# Altium schematic symbol library CPLD_Xilinx.SchLib: 17 symbols
Pins are listed as number, name and electrical type; pins without a type are passive.

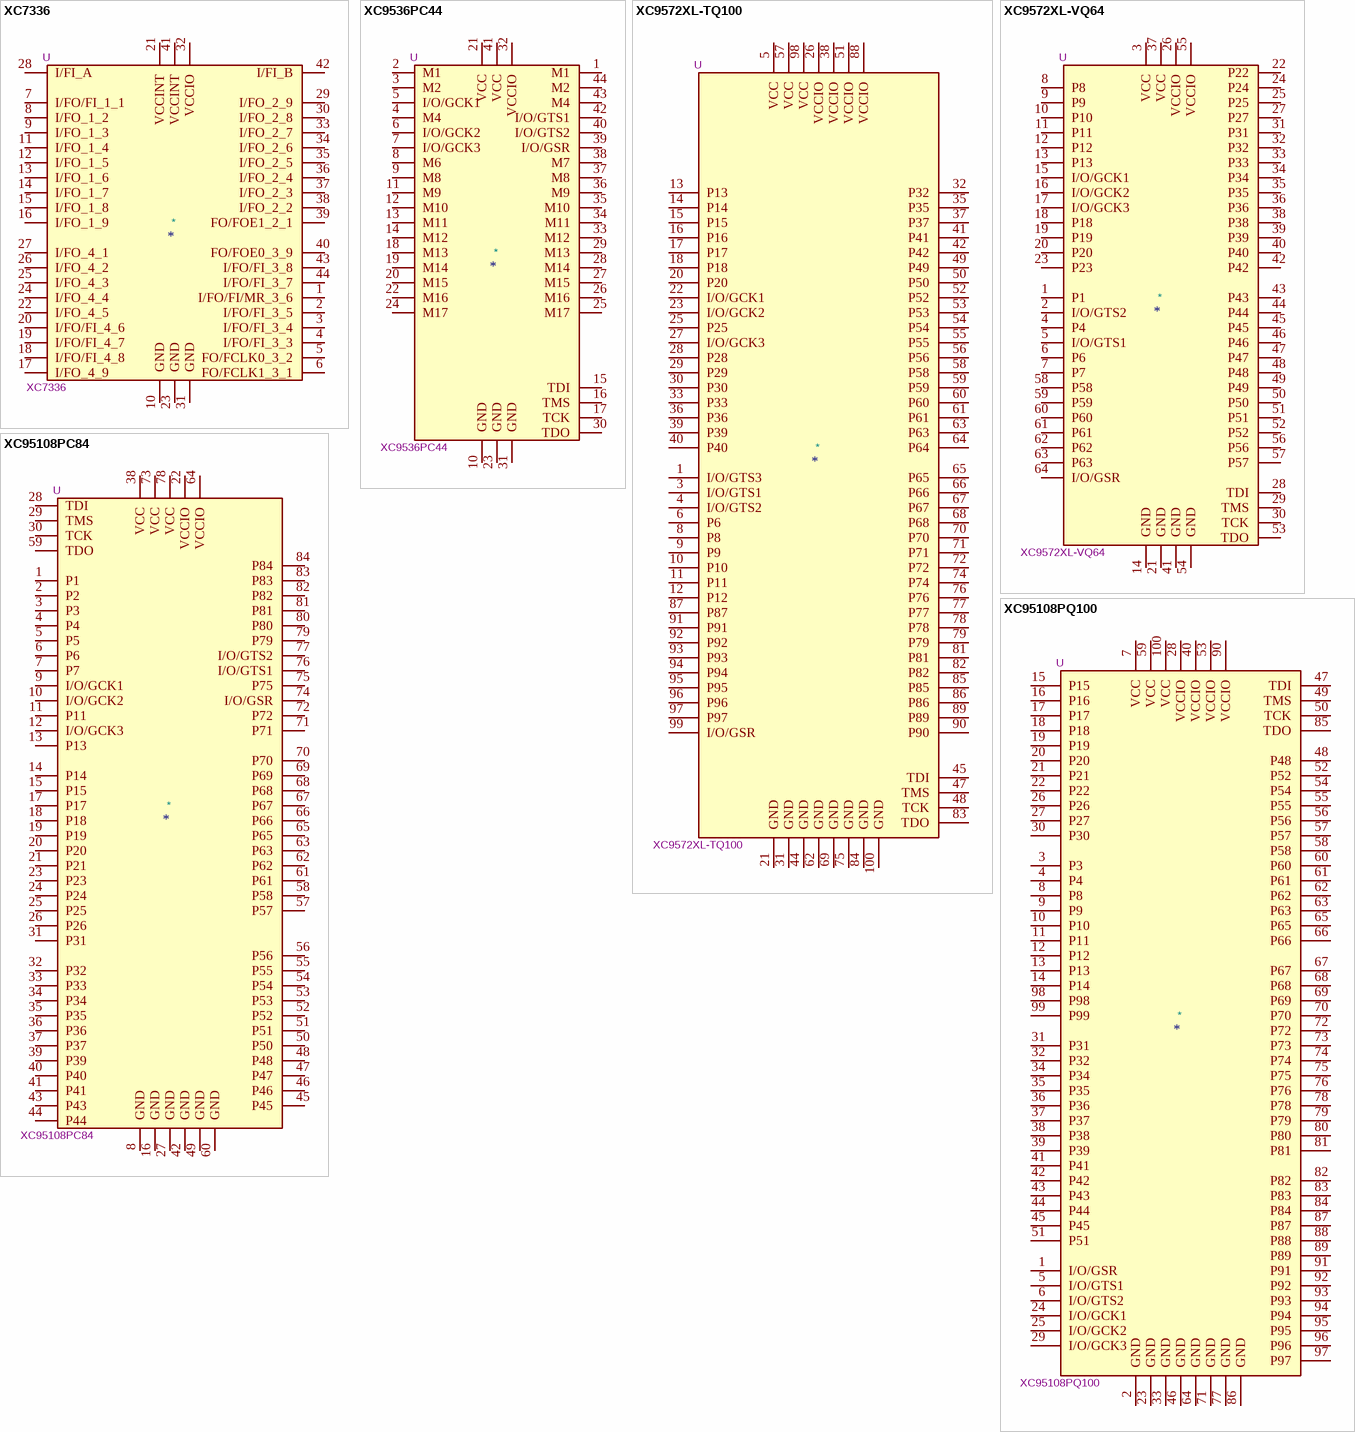
[diagram p0: symbols XC7336 to XC95108PQ100]

## XC7336
designator *  value XC7336  Reference: U
ki_description: Xilinx CPLD, Obsolete
pins: 1 I/FO/FI/MR_3_6, 2 I/FO/FI_3_5, 3 I/FO/FI_3_4, 4 I/FO/FI_3_3, 5 FO/FCLK0_3_2, 6 FO/FCLK1_3_1, 7 I/FO/FI_1_1, 8 I/FO_1_2, 9 I/FO_1_3, 10 GND, 11 I/FO_1_4, 12 I/FO_1_5, 13 I/FO_1_6, 14 I/FO_1_7, 15 I/FO_1_8, 16 I/FO_1_9, 17 I/FO_4_9, 18 I/FO/FI_4_8, 19 I/FO/FI_4_7, 20 I/FO/FI_4_6, 21 VCCINT, 22 I/FO_4_5, 23 GND, 24 I/FO_4_4, 25 I/FO_4_3, 26 I/FO_4_2, 27 I/FO_4_1, 28 I/FI_A, 29 I/FO_2_9, 30 I/FO_2_8, 31 GND, 32 VCCIO, 33 I/FO_2_7, 34 I/FO_2_6, 35 I/FO_2_5, 36 I/FO_2_4, 37 I/FO_2_3, 38 I/FO_2_2, 39 FO/FOE1_2_1, 40 FO/FOE0_3_9, 41 VCCINT, 42 I/FI_B, 43 I/FO/FI_3_8, 44 I/FO/FI_3_7

## XC9536PC44
designator *  value XC9536PC44  Reference: U
ki_description: Xilinx CPLD, Obsolete; Datasheet: xilinx/xc9536.pdf
pins: 1 M1, 2 M1, 3 M2, 4 M4, 5 I/O/GCK1, 6 I/O/GCK2, 7 I/O/GCK3, 8 M6, 9 M8, 10 GND, 11 M9, 12 M10, 13 M11, 14 M12, 15 TDI, 16 TMS, 17 TCK, 18 M13, 19 M14, 20 M15, 21 VCC, 22 M16, 23 GND, 24 M17, 25 M17, 26 M16, 27 M15, 28 M14, 29 M13, 30 TDO, 31 GND, 32 VCCIO, 33 M12, 34 M11, 35 M10, 36 M9, 37 M8, 38 M7, 39 I/O/GSR, 40 I/O/GTS2, 41 VCC, 42 I/O/GTS1, 43 M4, 44 M2

## XC9572XL-TQ100
designator *  value XC9572XL-TQ100  Reference: U
ki_keywords: CPLD; ki_description: CPLD, 72 Macrocells, 1600 Usable Gates; ki_fp_filters: TQFP*14x14mm*P0.5mm*; Footprint: Package_QFP:TQFP-100_14x14mm_P0.5mm; Datasheet: http://www.xilinx.com/support/documentation/data_sheets/ds057.pdf
pins: 1 I/O/GTS3, 2 NC hidden, 3 I/O/GTS1, 4 I/O/GTS2, 5 VCC, 6 P6, 7 NC hidden, 8 P8, 9 P9, 10 P10, 11 P11, 12 P12, 13 P13, 14 P14, 15 P15, 16 P16, 17 P17, 18 P18, 19 NC hidden, 20 P20, 21 GND, 22 I/O/GCK1, 23 I/O/GCK2, 24 NC hidden, 25 P25, 26 VCCIO, 27 I/O/GCK3, 28 P28, 29 P29, 30 P30, 31 GND, 32 P32, 33 P33, 34 NC hidden, 35 P35, 36 P36, 37 P37, 38 VCCIO, 39 P39, 40 P40, 41 P41, 42 P42, 43 NC hidden, 44 GND, 45 TDI, 46 NC hidden, 47 TMS, 48 TCK, 49 P49, 50 P50, 51 VCCIO, 52 P52, 53 P53, 54 P54, 55 P55, 56 P56, 57 VCC, 58 P58, 59 P59, 60 P60, 61 P61, 62 GND, 63 P63, 64 P64, 65 P65, 66 P66, 67 P67, 68 P68, 69 GND, 70 P70, 71 P71, 72 P72, 73 NC hidden, 74 P74, 75 GND, 76 P76, 77 P77, 78 P78, 79 P79, 80 NC hidden, 81 P81, 82 P82, 83 TDO, 84 GND, 85 P85, 86 P86, 87 P87, 88 VCCIO, 89 P89, 90 P90, 91 P91, 92 P92, 93 P93, 94 P94, 95 P95, 96 P96, 97 P97, 98 VCC, 99 I/O/GSR, 100 GND

## XC9572XL-VQ64
designator *  value XC9572XL-VQ64  Reference: U
ki_keywords: CPLD; ki_description: CPLD, 72 Macrocells, 1600 Usable Gates; ki_fp_filters: TQFP*10x10mm*P0.5mm*; Footprint: Package_QFP:TQFP-64_10x10mm_P0.5mm; Datasheet: http://www.xilinx.com/support/documentation/data_sheets/ds057.pdf
pins: 1 P1, 2 I/O/GTS2, 3 VCC, 4 P4, 5 I/O/GTS1, 6 P6, 7 P7, 8 P8, 9 P9, 10 P10, 11 P11, 12 P12, 13 P13, 14 GND, 15 I/O/GCK1, 16 I/O/GCK2, 17 I/O/GCK3, 18 P18, 19 P19, 20 P20, 21 GND, 22 P22, 23 P23, 24 P24, 25 P25, 26 VCCIO, 27 P27, 28 TDI, 29 TMS, 30 TCK, 31 P31, 32 P32, 33 P33, 34 P34, 35 P35, 36 P36, 37 VCC, 38 P38, 39 P39, 40 P40, 41 GND, 42 P42, 43 P43, 44 P44, 45 P45, 46 P46, 47 P47, 48 P48, 49 P49, 50 P50, 51 P51, 52 P52, 53 TDO, 54 GND, 55 VCCIO, 56 P56, 57 P57, 58 P58, 59 P59, 60 P60, 61 P61, 62 P62, 63 P63, 64 I/O/GSR

## XC95108PC84
designator *  value XC95108PC84  Reference: U
ki_description: Xilinx CPLD, Obsolete; Datasheet: xilinx/xc95108.pdf
pins: 1 P1, 2 P2, 3 P3, 4 P4, 5 P5, 6 P6, 7 P7, 8 GND, 9 I/O/GCK1, 10 I/O/GCK2, 11 P11, 12 I/O/GCK3, 13 P13, 14 P14, 15 P15, 16 GND, 17 P17, 18 P18, 19 P19, 20 P20, 21 P21, 22 VCCIO, 23 P23, 24 P24, 25 P25, 26 P26, 27 GND, 28 TDI, 29 TMS, 30 TCK, 31 P31, 32 P32, 33 P33, 34 P34, 35 P35, 36 P36, 37 P37, 38 VCC, 39 P39, 40 P40, 41 P41, 42 GND, 43 P43, 44 P44, 45 P45, 46 P46, 47 P47, 48 P48, 49 GND, 50 P50, 51 P51, 52 P52, 53 P53, 54 P54, 55 P55, 56 P56, 57 P57, 58 P58, 59 TDO, 60 GND, 61 P61, 62 P62, 63 P63, 64 VCCIO, 65 P65, 66 P66, 67 P67, 68 P68, 69 P69, 70 P70, 71 P71, 72 P72, 73 VCC, 74 I/O/GSR, 75 P75, 76 I/O/GTS1, 77 I/O/GTS2, 78 VCC, 79 P79, 80 P80, 81 P81, 82 P82, 83 P83, 84 P84

## XC95108PQ100
designator *  value XC95108PQ100  Reference: U
ki_description: Xilinx CPLD, Obsolete; Datasheet: xilinx/xc95108.pdf
pins: 1 I/O/GSR, 2 GND, 3 P3, 4 P4, 5 I/O/GTS1, 6 I/O/GTS2, 7 VCC, 8 P8, 9 P9, 10 P10, 11 P11, 12 P12, 13 P13, 14 P14, 15 P15, 16 P16, 17 P17, 18 P18, 19 P19, 20 P20, 21 P21, 22 P22, 23 GND, 24 I/O/GCK1, 25 I/O/GCK2, 26 P26, 27 P27, 28 VCCIO, 29 I/O/GCK3, 30 P30, 31 P31, 32 P32, 33 GND, 34 P34, 35 P35, 36 P36, 37 P37, 38 P38, 39 P39, 40 VCCIO, 41 P41, 42 P42, 43 P43, 44 P44, 45 P45, 46 GND, 47 TDI, 48 P48, 49 TMS, 50 TCK, 51 P51, 52 P52, 53 VCCIO, 54 P54, 55 P55, 56 P56, 57 P57, 58 P58, 59 VCC, 60 P60, 61 P61, 62 P62, 63 P63, 64 GND, 65 P65, 66 P66, 67 P67, 68 P68, 69 P69, 70 P70, 71 GND, 72 P72, 73 P73, 74 P74, 75 P75, 76 P76, 77 GND, 78 P78, 79 P79, 80 P80, 81 P81, 82 P82, 83 P83, 84 P84, 85 TDO, 86 GND, 87 P87, 88 P88, 89 P89, 90 VCCIO, 91 P91, 92 P92, 93 P93, 94 P94, 95 P95, 96 P96, 97 P97, 98 P98, 99 P99, 100 VCC

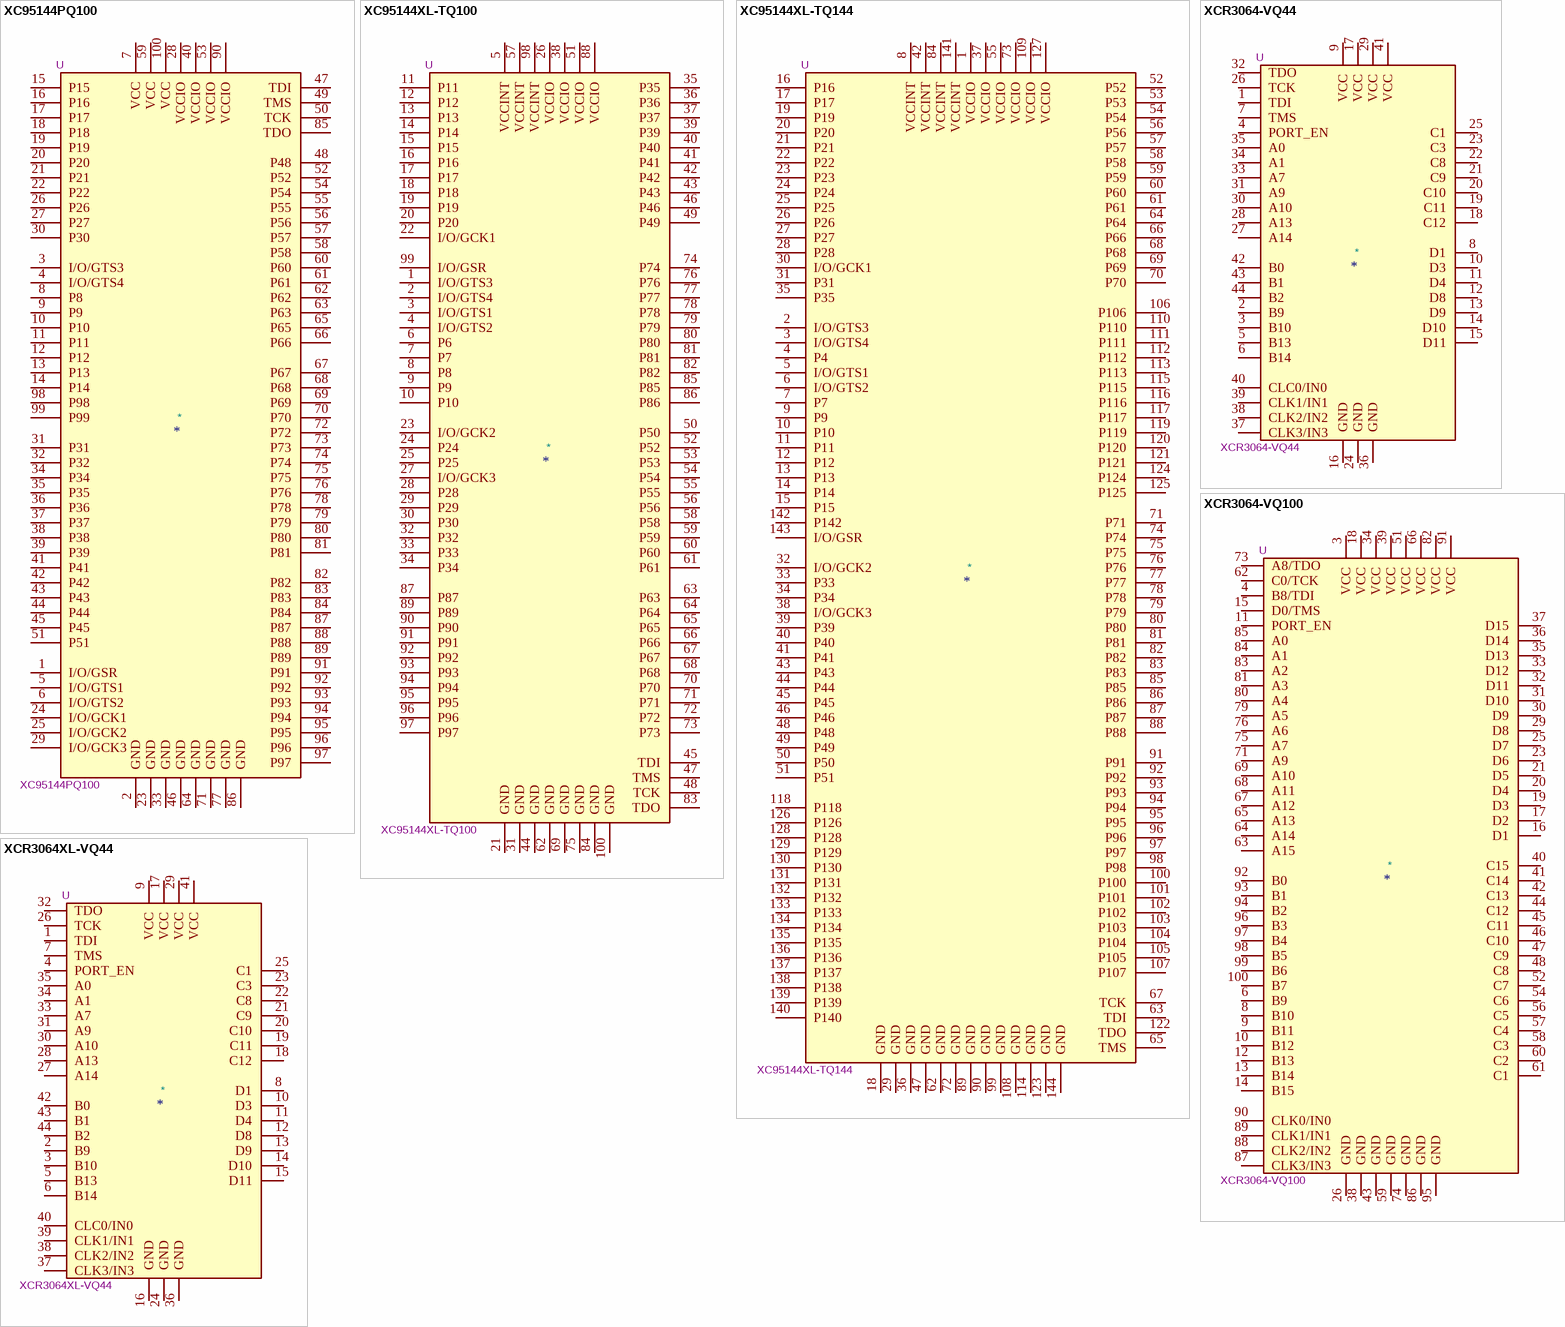
[diagram p1: symbols XC95144PQ100 to XCR3064XL-VQ44]

## XC95144PQ100
designator *  value XC95144PQ100  Reference: U
ki_description: Xilinx CPLD, Obsolete
pins: 1 I/O/GSR, 2 GND, 3 I/O/GTS3, 4 I/O/GTS4, 5 I/O/GTS1, 6 I/O/GTS2, 7 VCC, 8 P8, 9 P9, 10 P10, 11 P11, 12 P12, 13 P13, 14 P14, 15 P15, 16 P16, 17 P17, 18 P18, 19 P19, 20 P20, 21 P21, 22 P22, 23 GND, 24 I/O/GCK1, 25 I/O/GCK2, 26 P26, 27 P27, 28 VCCIO, 29 I/O/GCK3, 30 P30, 31 P31, 32 P32, 33 GND, 34 P34, 35 P35, 36 P36, 37 P37, 38 P38, 39 P39, 40 VCCIO, 41 P41, 42 P42, 43 P43, 44 P44, 45 P45, 46 GND, 47 TDI, 48 P48, 49 TMS, 50 TCK, 51 P51, 52 P52, 53 VCCIO, 54 P54, 55 P55, 56 P56, 57 P57, 58 P58, 59 VCC, 60 P60, 61 P61, 62 P62, 63 P63, 64 GND, 65 P65, 66 P66, 67 P67, 68 P68, 69 P69, 70 P70, 71 GND, 72 P72, 73 P73, 74 P74, 75 P75, 76 P76, 77 GND, 78 P78, 79 P79, 80 P80, 81 P81, 82 P82, 83 P83, 84 P84, 85 TDO, 86 GND, 87 P87, 88 P88, 89 P89, 90 VCCIO, 91 P91, 92 P92, 93 P93, 94 P94, 95 P95, 96 P96, 97 P97, 98 P98, 99 P99, 100 VCC

## XC95144XL-TQ100
designator *  value XC95144XL-TQ100  Reference: U
ki_keywords: CPLD; ki_description: CPLD, 144 Macrocells, 3200 Usable Gates; ki_fp_filters: TQFP*14x14mm*P0.5mm*; Footprint: Package_QFP:TQFP-100_14x14mm_P0.5mm; Datasheet: https://www.xilinx.com/support/documentation/data_sheets/ds056.pdf
pins: 1 I/O/GTS3, 2 I/O/GTS4, 3 I/O/GTS1, 4 I/O/GTS2, 5 VCCINT, 6 P6, 7 P7, 8 P8, 9 P9, 10 P10, 11 P11, 12 P12, 13 P13, 14 P14, 15 P15, 16 P16, 17 P17, 18 P18, 19 P19, 20 P20, 21 GND, 22 I/O/GCK1, 23 I/O/GCK2, 24 P24, 25 P25, 26 VCCIO, 27 I/O/GCK3, 28 P28, 29 P29, 30 P30, 31 GND, 32 P32, 33 P33, 34 P34, 35 P35, 36 P36, 37 P37, 38 VCCIO, 39 P39, 40 P40, 41 P41, 42 P42, 43 P43, 44 GND, 45 TDI, 46 P46, 47 TMS, 48 TCK, 49 P49, 50 P50, 51 VCCIO, 52 P52, 53 P53, 54 P54, 55 P55, 56 P56, 57 VCCINT, 58 P58, 59 P59, 60 P60, 61 P61, 62 GND, 63 P63, 64 P64, 65 P65, 66 P66, 67 P67, 68 P68, 69 GND, 70 P70, 71 P71, 72 P72, 73 P73, 74 P74, 75 GND, 76 P76, 77 P77, 78 P78, 79 P79, 80 P80, 81 P81, 82 P82, 83 TDO, 84 GND, 85 P85, 86 P86, 87 P87, 88 VCCIO, 89 P89, 90 P90, 91 P91, 92 P92, 93 P93, 94 P94, 95 P95, 96 P96, 97 P97, 98 VCCINT, 99 I/O/GSR, 100 GND

## XC95144XL-TQ144
designator *  value XC95144XL-TQ144  Reference: U
ki_keywords: CPLD; ki_description: CPLD, 144 Macrocells, 3200 Usable Gates; ki_fp_filters: TQFP*20x20mm*P0.5mm*; Footprint: Package_QFP:TQFP-144_20x20mm_P0.5mm; Datasheet: https://www.xilinx.com/support/documentation/data_sheets/ds056.pdf
pins: 1 VCCIO, 2 I/O/GTS3, 3 I/O/GTS4, 4 P4, 5 I/O/GTS1, 6 I/O/GTS2, 7 P7, 8 VCCINT, 9 P9, 10 P10, 11 P11, 12 P12, 13 P13, 14 P14, 15 P15, 16 P16, 17 P17, 18 GND, 19 P19, 20 P20, 21 P21, 22 P22, 23 P23, 24 P24, 25 P25, 26 P26, 27 P27, 28 P28, 29 GND, 30 I/O/GCK1, 31 P31, 32 I/O/GCK2, 33 P33, 34 P34, 35 P35, 36 GND, 37 VCCIO, 38 I/O/GCK3, 39 P39, 40 P40, 41 P41, 42 VCCINT, 43 P43, 44 P44, 45 P45, 46 P46, 47 GND, 48 P48, 49 P49, 50 P50, 51 P51, 52 P52, 53 P53, 54 P54, 55 VCCIO, 56 P56, 57 P57, 58 P58, 59 P59, 60 P60, 61 P61, 62 GND, 63 TDI, 64 P64, 65 TMS, 66 P66, 67 TCK, 68 P68, 69 P69, 70 P70, 71 P71, 72 GND, 73 VCCIO, 74 P74, 75 P75, 76 P76, 77 P77, 78 P78, 79 P79, 80 P80, 81 P81, 82 P82, 83 P83, 84 VCCINT, 85 P85, 86 P86, 87 P87, 88 P88, 89 GND, 90 GND, 91 P91, 92 P92, 93 P93, 94 P94, 95 P95, 96 P96, 97 P97, 98 P98, 99 GND, 100 P100, 101 P101, 102 P102, 103 P103, 104 P104, 105 P105, 106 P106, 107 P107, 108 GND, 109 VCCIO, 110 P110, 111 P111, 112 P112, 113 P113, 114 GND, 115 P115, 116 P116, 117 P117, 118 P118, 119 P119, 120 P120, 121 P121, 122 TDO, 123 GND, 124 P124, 125 P125, 126 P126, 127 VCCIO, 128 P128, 129 P129, 130 P130, 131 P131, 132 P132, 133 P133, 134 P134, 135 P135, 136 P136, 137 P137, 138 P138, 139 P139, 140 P140, 141 VCCINT, 142 P142, 143 I/O/GSR, 144 GND

## XCR3064-VQ44
designator *  value XCR3064-VQ44  Reference: U
ki_keywords: CPLD; ki_description: Xilinx CoolRunner 64-Macrocell CPLD, 3.3V, VQFP-44, Obsolete; ki_fp_filters: LQFP*10x10mm*P0.8mm*; Footprint: Package_QFP:LQFP-44_10x10mm_P0.8mm; Datasheet: https://www.xilinx.com/support/documentation/data_sheets/ds017.pdf
pins: 1 TDI, 2 B9, 3 B10, 4 PORT_EN, 5 B13, 6 B14, 7 TMS, 8 D1, 9 VCC, 10 D3, 11 D4, 12 D8, 13 D9, 14 D10, 15 D11, 16 GND, 17 VCC, 18 C12, 19 C11, 20 C10, 21 C9, 22 C8, 23 C3, 24 GND, 25 C1, 26 TCK, 27 A14, 28 A13, 29 VCC, 30 A10, 31 A9, 32 TDO, 33 A7, 34 A1, 35 A0, 36 GND, 37 CLK3/IN3, 38 CLK2/IN2, 39 CLK1/IN1, 40 CLC0/IN0, 41 VCC, 42 B0, 43 B1, 44 B2

## XCR3064-VQ100
designator *  value XCR3064-VQ100  Reference: U
ki_keywords: CPLD; ki_description: Xilinx CoolRunner 64-Macrocell CPLD, 3.3V, VQFP-100, Obsolete; ki_fp_filters: LQFP*14x14mm*P0.5*; Footprint: Package_QFP:LQFP-100_14x14mm_P0.5mm; Datasheet: https://www.xilinx.com/support/documentation/data_sheets/ds017.pdf
pins: 3 VCC, 4 B8/TDI, 6 B9, 8 B10, 9 B11, 10 B12, 11 PORT_EN, 12 B13, 13 B14, 14 B15, 15 D0/TMS, 16 D1, 17 D2, 18 VCC, 19 D3, 20 D4, 21 D5, 23 D6, 25 D7, 26 GND, 29 D8, 30 D9, 31 D10, 32 D11, 33 D12, 34 VCC, 35 D13, 36 D14, 37 D15, 38 GND, 39 VCC, 40 C15, 41 C14, 42 C13, 43 GND, 44 C12, 45 C11, 46 C10, 47 C9, 48 C8, 51 VCC, 52 C7, 54 C6, 56 C5, 57 C4, 58 C3, 59 GND, 60 C2, 61 C1, 62 C0/TCK, 63 A15, 64 A14, 65 A13, 66 VCC, 67 A12, 68 A11, 69 A10, 71 A9, 73 A8/TDO, 74 GND, 75 A7, 76 A6, 79 A5, 80 A4, 81 A3, 82 VCC, 83 A2, 84 A1, 85 A0, 86 GND, 87 CLK3/IN3, 88 CLK2/IN2, 89 CLK1/IN1, 90 CLK0/IN0, 91 VCC, 92 B0, 93 B1, 94 B2, 95 GND, 96 B3, 97 B4, 98 B5, 99 B6, 100 B7

## XCR3064XL-VQ44
designator *  value XCR3064XL-VQ44  Reference: U
ki_keywords: CPLD; ki_description: Xilinx CoolRunner 64-Macrocell CPLD, 3.3V, VQFP-44; ki_fp_filters: LQFP*10x10mm*P0.8mm*; Footprint: Package_QFP:LQFP-44_10x10mm_P0.8mm; Datasheet: https://www.xilinx.com/support/documentation/data_sheets/ds017.pdf
pins: 1 TDI, 2 B9, 3 B10, 4 PORT_EN, 5 B13, 6 B14, 7 TMS, 8 D1, 9 VCC, 10 D3, 11 D4, 12 D8, 13 D9, 14 D10, 15 D11, 16 GND, 17 VCC, 18 C12, 19 C11, 20 C10, 21 C9, 22 C8, 23 C3, 24 GND, 25 C1, 26 TCK, 27 A14, 28 A13, 29 VCC, 30 A10, 31 A9, 32 TDO, 33 A7, 34 A1, 35 A0, 36 GND, 37 CLK3/IN3, 38 CLK2/IN2, 39 CLK1/IN1, 40 CLC0/IN0, 41 VCC, 42 B0, 43 B1, 44 B2

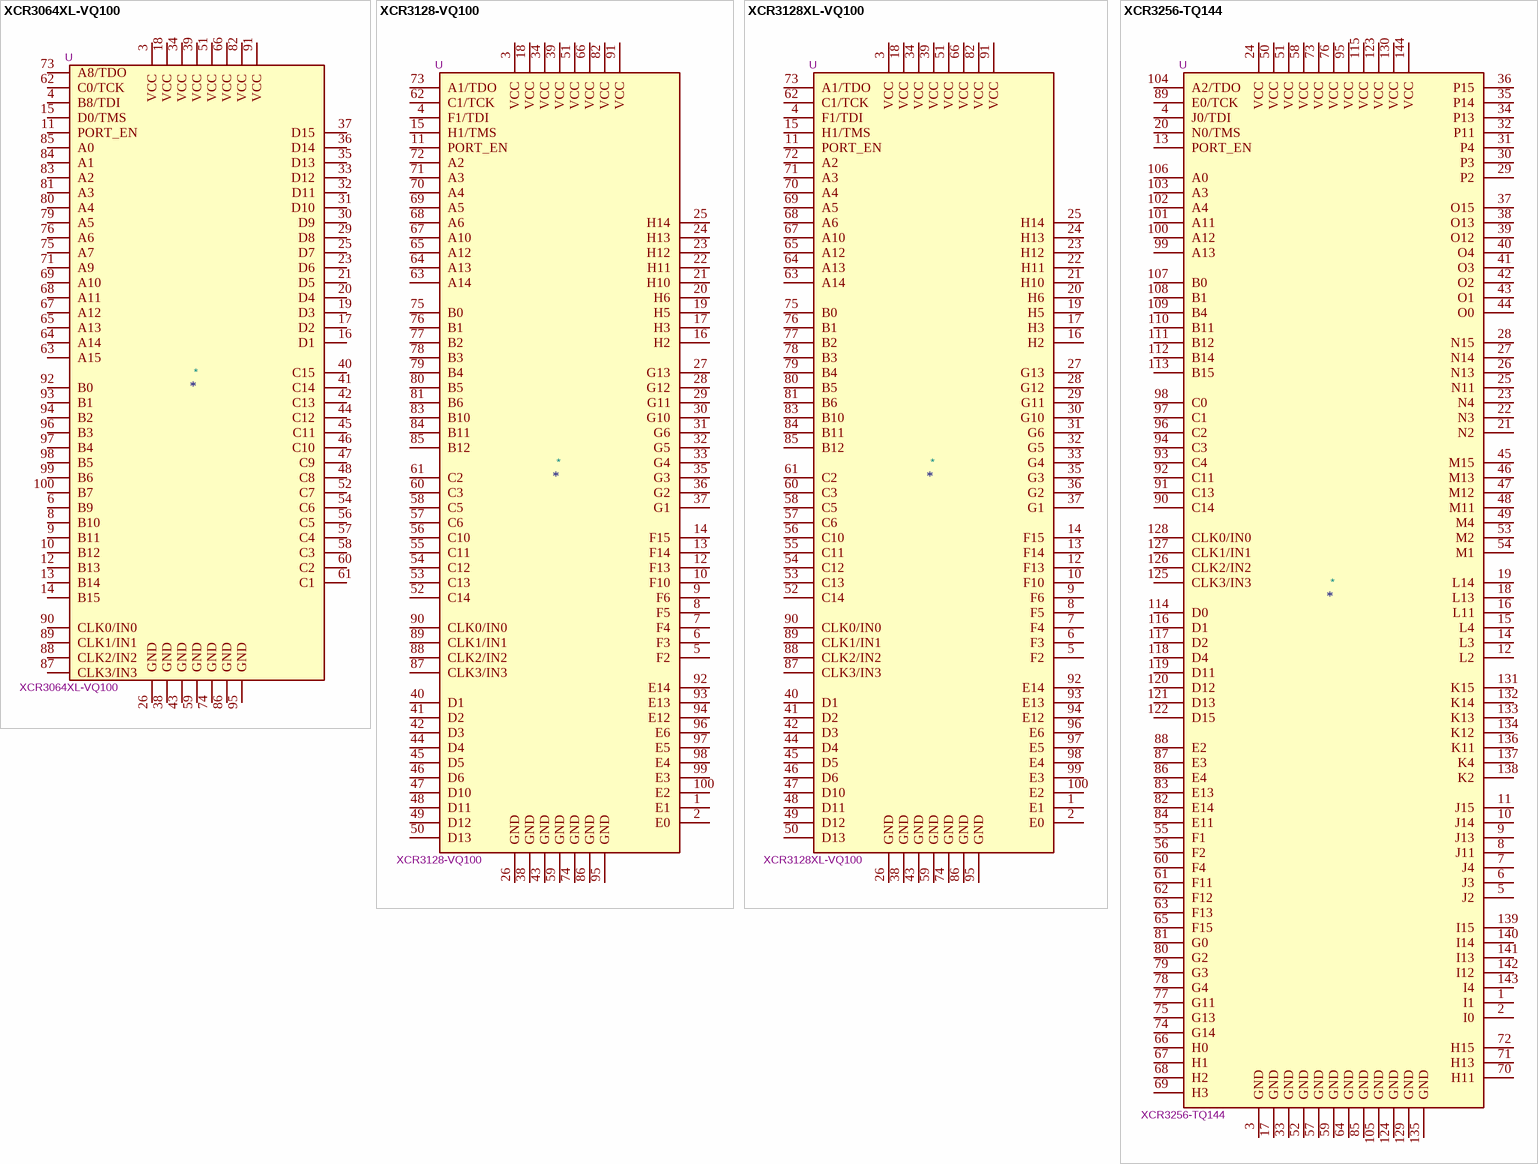
[diagram p2: symbols XCR3064XL-VQ100 to XCR3256-TQ144]

## XCR3064XL-VQ100
designator *  value XCR3064XL-VQ100  Reference: U
ki_keywords: CPLD; ki_description: Xilinx CoolRunner 64-Macrocell CPLD, 3.3V, VQFP-100; ki_fp_filters: LQFP*14x14mm*P0.5*; Footprint: Package_QFP:LQFP-100_14x14mm_P0.5mm; Datasheet: https://www.xilinx.com/support/documentation/data_sheets/ds017.pdf
pins: 3 VCC, 4 B8/TDI, 6 B9, 8 B10, 9 B11, 10 B12, 11 PORT_EN, 12 B13, 13 B14, 14 B15, 15 D0/TMS, 16 D1, 17 D2, 18 VCC, 19 D3, 20 D4, 21 D5, 23 D6, 25 D7, 26 GND, 29 D8, 30 D9, 31 D10, 32 D11, 33 D12, 34 VCC, 35 D13, 36 D14, 37 D15, 38 GND, 39 VCC, 40 C15, 41 C14, 42 C13, 43 GND, 44 C12, 45 C11, 46 C10, 47 C9, 48 C8, 51 VCC, 52 C7, 54 C6, 56 C5, 57 C4, 58 C3, 59 GND, 60 C2, 61 C1, 62 C0/TCK, 63 A15, 64 A14, 65 A13, 66 VCC, 67 A12, 68 A11, 69 A10, 71 A9, 73 A8/TDO, 74 GND, 75 A7, 76 A6, 79 A5, 80 A4, 81 A3, 82 VCC, 83 A2, 84 A1, 85 A0, 86 GND, 87 CLK3/IN3, 88 CLK2/IN2, 89 CLK1/IN1, 90 CLK0/IN0, 91 VCC, 92 B0, 93 B1, 94 B2, 95 GND, 96 B3, 97 B4, 98 B5, 99 B6, 100 B7

## XCR3128-VQ100
designator *  value XCR3128-VQ100  Reference: U
ki_keywords: CPLD; ki_description: Xilinx CoolRunner 128-Macrocell CPLD, 3.3V, VQFP-100, Obsolete; ki_fp_filters: LQFP*14x14mm*P0.5*; Footprint: Package_QFP:LQFP-100_14x14mm_P0.5mm; Datasheet: https://www.xilinx.com/support/documentation/data_sheets/ds016.pdf
pins: 1 E1, 2 E0, 3 VCC, 4 F1/TDI, 5 F2, 6 F3, 7 F4, 8 F5, 9 F6, 10 F10, 11 PORT_EN, 12 F13, 13 F14, 14 F15, 15 H1/TMS, 16 H2, 17 H3, 18 VCC, 19 H5, 20 H6, 21 H10, 22 H11, 23 H12, 24 H13, 25 H14, 26 GND, 27 G13, 28 G12, 29 G11, 30 G10, 31 G6, 32 G5, 33 G4, 34 VCC, 35 G3, 36 G2, 37 G1, 38 GND, 39 VCC, 40 D1, 41 D2, 42 D3, 43 GND, 44 D4, 45 D5, 46 D6, 47 D10, 48 D11, 49 D12, 50 D13, 51 VCC, 52 C14, 53 C13, 54 C12, 55 C11, 56 C10, 57 C6, 58 C5, 59 GND, 60 C3, 61 C2, 62 C1/TCK, 63 A14, 64 A13, 65 A12, 66 VCC, 67 A10, 68 A6, 69 A5, 70 A4, 71 A3, 72 A2, 73 A1/TDO, 74 GND, 75 B0, 76 B1, 77 B2, 78 B3, 79 B4, 80 B5, 81 B6, 82 VCC, 83 B10, 84 B11, 85 B12, 86 GND, 87 CLK3/IN3, 88 CLK2/IN2, 89 CLK1/IN1, 90 CLK0/IN0, 91 VCC, 92 E14, 93 E13, 94 E12, 95 GND, 96 E6, 97 E5, 98 E4, 99 E3, 100 E2

## XCR3128XL-VQ100
designator *  value XCR3128XL-VQ100  Reference: U
ki_keywords: CPLD; ki_description: Xilinx CoolRunner 128-Macrocell CPLD, 3.3V, VQFP-100; ki_fp_filters: LQFP*14x14mm*P0.5*; Footprint: Package_QFP:LQFP-100_14x14mm_P0.5mm; Datasheet: https://www.xilinx.com/support/documentation/data_sheets/ds016.pdf
pins: 1 E1, 2 E0, 3 VCC, 4 F1/TDI, 5 F2, 6 F3, 7 F4, 8 F5, 9 F6, 10 F10, 11 PORT_EN, 12 F13, 13 F14, 14 F15, 15 H1/TMS, 16 H2, 17 H3, 18 VCC, 19 H5, 20 H6, 21 H10, 22 H11, 23 H12, 24 H13, 25 H14, 26 GND, 27 G13, 28 G12, 29 G11, 30 G10, 31 G6, 32 G5, 33 G4, 34 VCC, 35 G3, 36 G2, 37 G1, 38 GND, 39 VCC, 40 D1, 41 D2, 42 D3, 43 GND, 44 D4, 45 D5, 46 D6, 47 D10, 48 D11, 49 D12, 50 D13, 51 VCC, 52 C14, 53 C13, 54 C12, 55 C11, 56 C10, 57 C6, 58 C5, 59 GND, 60 C3, 61 C2, 62 C1/TCK, 63 A14, 64 A13, 65 A12, 66 VCC, 67 A10, 68 A6, 69 A5, 70 A4, 71 A3, 72 A2, 73 A1/TDO, 74 GND, 75 B0, 76 B1, 77 B2, 78 B3, 79 B4, 80 B5, 81 B6, 82 VCC, 83 B10, 84 B11, 85 B12, 86 GND, 87 CLK3/IN3, 88 CLK2/IN2, 89 CLK1/IN1, 90 CLK0/IN0, 91 VCC, 92 E14, 93 E13, 94 E12, 95 GND, 96 E6, 97 E5, 98 E4, 99 E3, 100 E2

## XCR3256-TQ144
designator *  value XCR3256-TQ144  Reference: U
ki_keywords: CPLD; ki_description: Xilinx CoolRunner 256-Macrocell CPLD, 3.3V, TQFP-144, Obsolete; ki_fp_filters: TQFP*20x20mm*P0.5*; Footprint: Package_QFP:TQFP-144_20x20mm_P0.5mm; Datasheet: https://www.xilinx.com/support/documentation/data_sheets/ds013.pdf
pins: 1 I1, 2 I0, 3 GND, 4 J0/TDI, 5 J2, 6 J3, 7 J4, 8 J11, 9 J13, 10 J14, 11 J15, 12 L2, 13 PORT_EN, 14 L3, 15 L4, 16 L11, 17 GND, 18 L13, 19 L14, 20 N0/TMS, 21 N2, 22 N3, 23 N4, 24 VCC, 25 N11, 26 N13, 27 N14, 28 N15, 29 P2, 30 P3, 31 P4, 32 P11, 33 GND, 34 P13, 35 P14, 36 P15, 37 O15, 38 O13, 39 O12, 40 O4, 41 O3, 42 O2, 43 O1, 44 O0, 45 M15, 46 M13, 47 M12, 48 M11, 49 M4, 50 VCC, 51 VCC, 52 GND, 53 M2, 54 M1, 55 F1, 56 F2, 57 GND, 58 VCC, 59 GND, 60 F4, 61 F11, 62 F12, 63 F13, 64 GND, 65 F15, 66 H0, 67 H1, 68 H2, 69 H3, 70 H11, 71 H13, 72 H15, 73 VCC, 74 G14, 75 G13, 76 VCC, 77 G11, 78 G4, 79 G3, 80 G2, 81 G0, 82 E14, 83 E13, 84 E11, 85 GND, 86 E4, 87 E3, 88 E2, 89 E0/TCK, 90 C14, 91 C13, 92 C11, 93 C4, 94 C3, 95 VCC, 96 C2, 97 C1, 98 C0, 99 A13, 100 A12, 101 A11, 102 A4, 103 A3, 104 A2/TDO, 105 GND, 106 A0, 107 B0, 108 B1, 109 B4, 110 B11, 111 B12, 112 B14, 113 B15, 114 D0, 115 VCC, 116 D1, 117 D2, 118 D4, 119 D11, 120 D12, 121 D13, 122 D15, 123 VCC, 124 GND, 125 CLK3/IN3, 126 CLK2/IN2, 127 CLK1/IN1, 128 CLK0/IN0, 129 GND, 130 VCC, 131 K15, 132 K14, 133 K13, 134 K12, 135 GND, 136 K11, 137 K4, 138 K2, 139 I15, 140 I14, 141 I13, 142 I12, 143 I4, 144 VCC

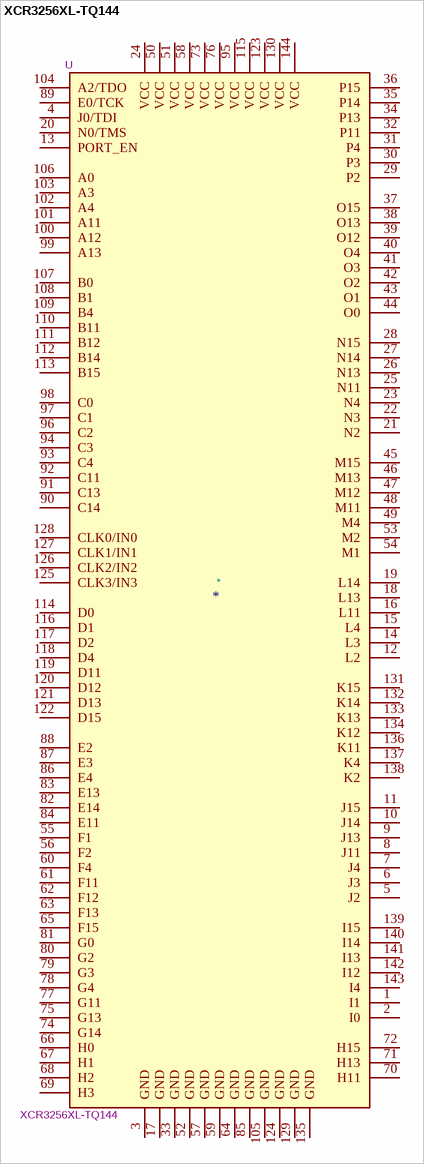
[diagram p3: symbol XCR3256XL-TQ144]

## XCR3256XL-TQ144
designator *  value XCR3256XL-TQ144  Reference: U
ki_keywords: CPLD; ki_description: Xilinx CoolRunner 256-Macrocell CPLD, 3.3V, TQFP-144; ki_fp_filters: TQFP*20x20mm*P0.5*; Footprint: Package_QFP:TQFP-144_20x20mm_P0.5mm; Datasheet: https://www.xilinx.com/support/documentation/data_sheets/ds013.pdf
pins: 1 I1, 2 I0, 3 GND, 4 J0/TDI, 5 J2, 6 J3, 7 J4, 8 J11, 9 J13, 10 J14, 11 J15, 12 L2, 13 PORT_EN, 14 L3, 15 L4, 16 L11, 17 GND, 18 L13, 19 L14, 20 N0/TMS, 21 N2, 22 N3, 23 N4, 24 VCC, 25 N11, 26 N13, 27 N14, 28 N15, 29 P2, 30 P3, 31 P4, 32 P11, 33 GND, 34 P13, 35 P14, 36 P15, 37 O15, 38 O13, 39 O12, 40 O4, 41 O3, 42 O2, 43 O1, 44 O0, 45 M15, 46 M13, 47 M12, 48 M11, 49 M4, 50 VCC, 51 VCC, 52 GND, 53 M2, 54 M1, 55 F1, 56 F2, 57 GND, 58 VCC, 59 GND, 60 F4, 61 F11, 62 F12, 63 F13, 64 GND, 65 F15, 66 H0, 67 H1, 68 H2, 69 H3, 70 H11, 71 H13, 72 H15, 73 VCC, 74 G14, 75 G13, 76 VCC, 77 G11, 78 G4, 79 G3, 80 G2, 81 G0, 82 E14, 83 E13, 84 E11, 85 GND, 86 E4, 87 E3, 88 E2, 89 E0/TCK, 90 C14, 91 C13, 92 C11, 93 C4, 94 C3, 95 VCC, 96 C2, 97 C1, 98 C0, 99 A13, 100 A12, 101 A11, 102 A4, 103 A3, 104 A2/TDO, 105 GND, 106 A0, 107 B0, 108 B1, 109 B4, 110 B11, 111 B12, 112 B14, 113 B15, 114 D0, 115 VCC, 116 D1, 117 D2, 118 D4, 119 D11, 120 D12, 121 D13, 122 D15, 123 VCC, 124 GND, 125 CLK3/IN3, 126 CLK2/IN2, 127 CLK1/IN1, 128 CLK0/IN0, 129 GND, 130 VCC, 131 K15, 132 K14, 133 K13, 134 K12, 135 GND, 136 K11, 137 K4, 138 K2, 139 I15, 140 I14, 141 I13, 142 I12, 143 I4, 144 VCC